# Altium footprint library My Library.PcbLib: 161 footprints (part 6 of 11)
Each footprint in its own frame and in the unit in brackets; x right, y up, seen from the top. Pads: shape width x height; smd on the part's side, far side on the other; paste and mask are expansions set on the pad; w line width, h text height; cw(c..) or ccw(c..) is an arc to the next point about the centre after c.
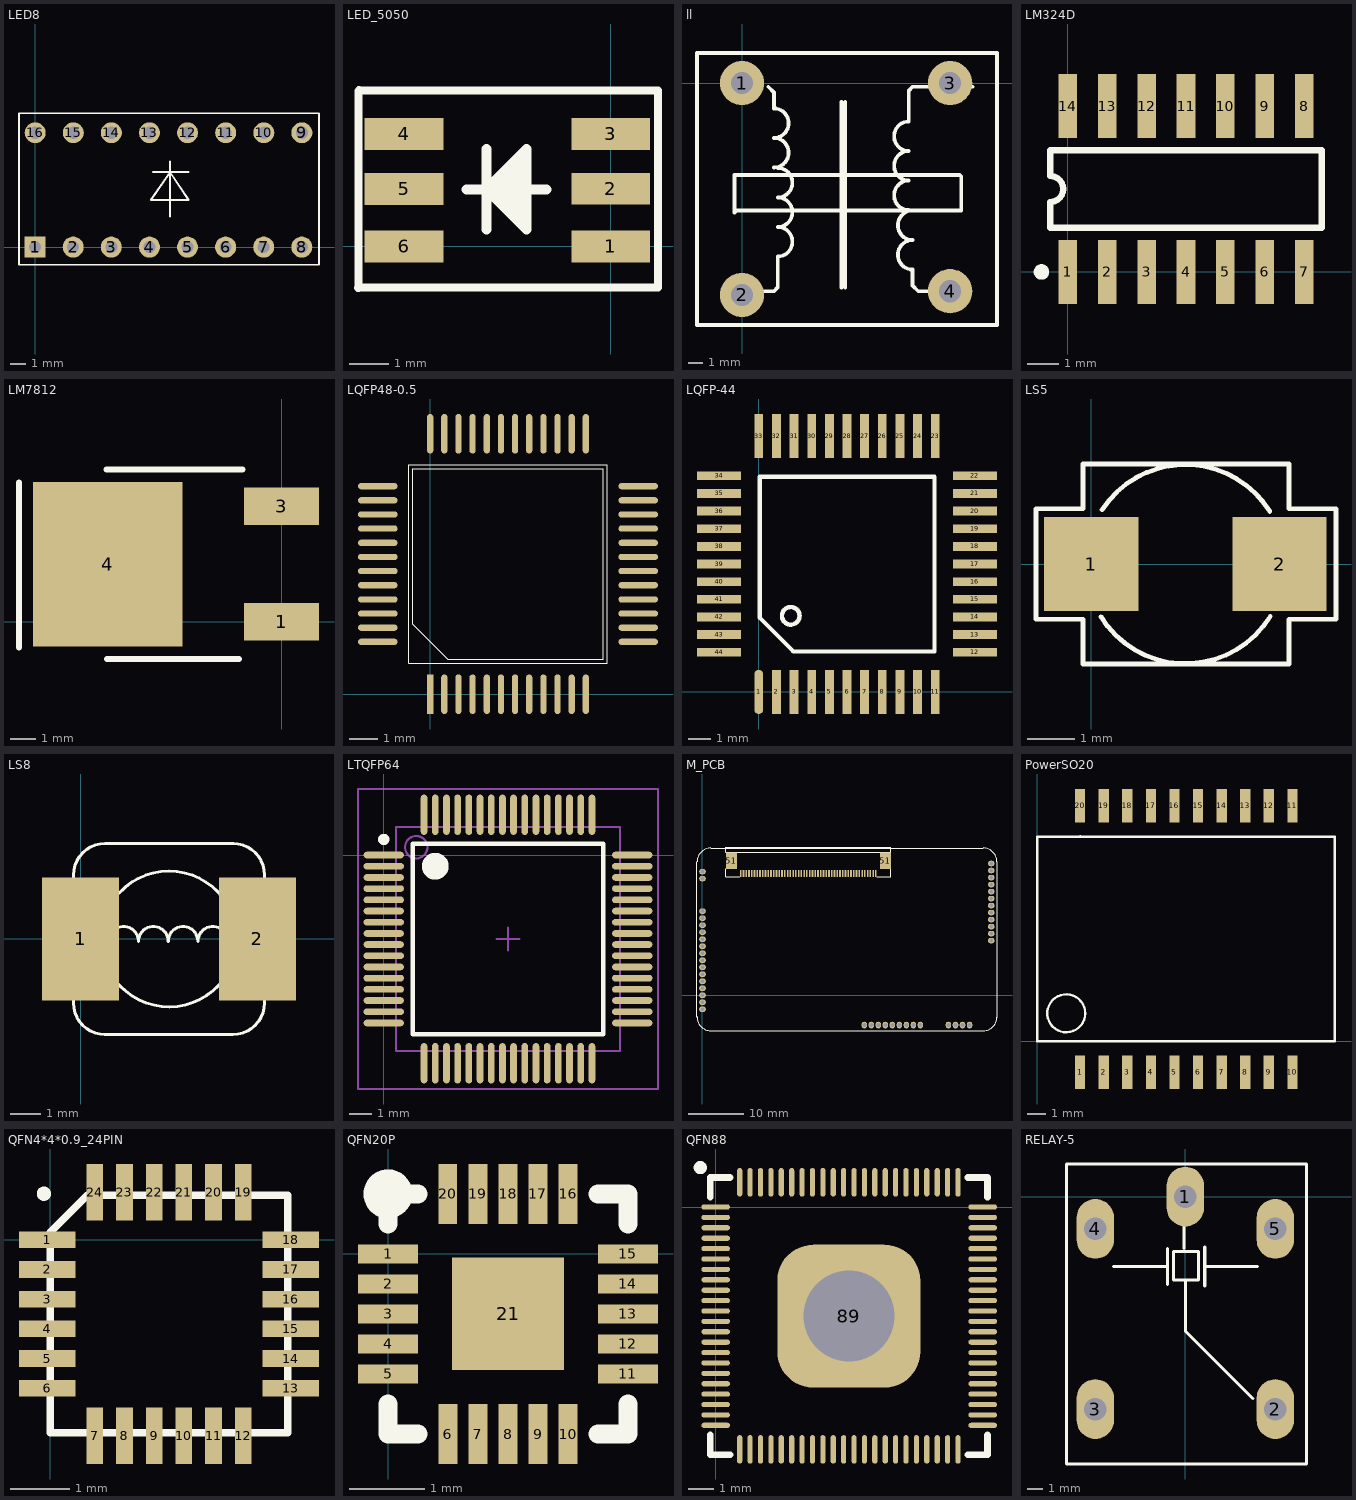
[diagram p5: the footprints below, top view; thin cyan lines are the x and y axes]

## LED8 [mm]
height 8
pads (16):
  rect 1.4x1.4 hole 0.8: 1(0,0)
  round 1.4 hole 0.8: 2(2.54,0) 3(5.08,0) 4(7.62,0) 5(10.16,0) 6(12.7,0) 7(15.24,0) 8(17.78,0) 9(17.782,7.625) 10(15.242,7.625) 11(12.702,7.625) 12(10.162,7.625) 13(7.622,7.625) 14(5.082,7.625) 15(2.542,7.625) 16(0.002,7.625)
Top Overlay:
  lines w0.127: -1.075,8.925 -1.075,-1.175 18.925,-1.175 18.925,8.925 -1.05,8.925 ; 7.85,5 10.225,5 ; 8.975,4.95 7.725,3.15 10.225,3.15 9,4.975 ; 9,2.025 9,5.725

## LED_5050 [mm]
height 1.5
pads (6):
  rect 2x0.8 smd: 1(0,0) 2(0,1.457) 3(0,2.85) 4(-5.238,2.85) 5(-5.238,1.457) 6(-5.238,0)
Top Overlay:
  region: -2.358,2.007 -2.587,2.007 -2.587,1.778 -2.358,1.778
  lines w0.203: -6.404,-1.046 1.197,-1.039 ; -6.397,-1.046 -6.397,3.945 ; -6.382,3.959 1.185,3.958 ; 1.198,-1.038 1.198,3.95
  lines w0.25: -2.529,1.233 -2.529,1.758 ; -2.463,1.252 -2.757,1.545 -2.401,1.901 -2.401,0.92 -2.927,1.446 -2.264,2.109 -2.264,0.707
  lines w0.254: -3.654,1.449 -3.146,1.449 ; -3.146,0.433 -3.146,1.449 ; -3.146,2.465 -3.146,1.449 ; -2.13,0.941 -2.13,2.465 -3.146,1.449 ; -1.622,1.449 -2.13,1.449 -2.13,0.433 -3.146,1.449
3D body: height 1.5, standoff 0, extent -5.063,-1.1 -0.038,3.925

## ll [mm]
pads (4):
  round 3 hole 1.5: 1(0,0) 2(0,-14.351) 3(14.097,0) 4(14.097,-14.097)
Top Overlay:
  lines w0.254: 1.524,-14.097 1.905,-14.097 2.159,-14.097 2.413,-13.843 2.413,-11.747 ccw(c2.413,-10.747) 2.413,-9.747 ccw(c2.413,-8.747) 2.413,-7.747 ccw(c2.413,-6.747) 2.413,-5.747 ; 1.778,-0.254 2.159,-0.635 2.159,-1.715 cw(c2.159,-2.715) 2.159,-3.715 cw(c2.159,-4.715) 2.159,-5.715 ; 6.731,-13.843 6.731,-1.27 ; 6.985,-13.843 6.985,-1.27 ; 11.303,-8.604 cw(c11.303,-7.604) 11.303,-6.604 cw(c11.303,-5.604) 11.303,-4.604 cw(c11.303,-3.604) 11.303,-2.604 11.303,-0.508 11.557,-0.254 11.811,-0.254 12.192,-0.254 15.621,-0.254 ; 11.557,-8.636 ccw(c11.557,-9.636) 11.557,-10.636 ccw(c11.557,-11.636) 11.557,-12.636 11.557,-13.716 11.938,-14.097 15.24,-14.097 ; -3.048,-16.383 17.272,-16.383 17.272,2.032 -3.048,2.032 -3.048,-16.383 ; -0.508,-8.763 -0.381,-8.636 14.859,-8.636 14.859,-6.35 14.732,-6.223 -0.508,-6.223 -0.508,-8.763

## LM324D [mm]
pads (14):
  rect 0.6x2.05 smd: 1(0,0) 2(1.27,0) 3(2.54,0) 4(3.81,0) 5(5.08,0) 6(6.35,0) 7(7.62,0) 8(7.62,5.35) 9(6.35,5.35) 10(5.08,5.35) 11(3.81,5.35) 12(2.54,5.35) 13(1.27,5.35) 14(0,5.35)
Top Overlay:
  circle w0.25: c-0.85,0 r0.125
  lines w0.2: -0.565,1.425 8.185,1.425 8.185,3.925 -0.565,3.925 -0.565,3.092 cw(c-0.565,2.675) -0.565,2.258 -0.565,1.425

## LM7812 [mm]
pads (3):
  rect 3x1.5 smd: 1(0,0) 3(0,4.623)
  rect 6x6.6 smd: 4(-6.964,2.3)
Top Overlay:
  lines w0.254: -10.516,-1.027 -10.516,5.577 ; -7.01,6.093 -1.575,6.093 ; -6.985,-1.496 -6.35,-1.496 -1.702,-1.496

## LQFP48-0.5 [mm]
height 1.5
pads (48):
  rect 0.22x1.4 smd: 1(0,0)
  oval 0.22x1.4 smd: 2(0.5,0) 3(1,0) 4(1.5,0) 5(2,0) 6(2.5,0) 7(3,0) 8(3.5,0) 9(4,0) 10(4.5,0) 11(5,0) 12(5.5,0) 25(5.5,9.2) 26(5,9.2) 27(4.5,9.2) 28(4,9.2) 29(3.5,9.2) 30(3,9.2) 31(2.5,9.2) 32(2,9.2) 33(1.5,9.2) 34(1,9.2) 35(0.5,9.2) 36(0,9.2)
  oval 1.4x0.22 smd: 13(7.35,1.85) 14(7.35,2.35) 15(7.35,2.85) 16(7.35,3.35) 17(7.35,3.85) 18(7.35,4.35) 19(7.35,4.85) 20(7.35,5.35) 21(7.35,5.85) 22(7.35,6.35) 23(7.35,6.85) 24(7.35,7.35) 37(-1.85,7.35) 38(-1.85,6.85) 39(-1.85,6.35) 40(-1.85,5.85) 41(-1.85,5.35) 42(-1.85,4.85) 43(-1.85,4.35) 44(-1.85,3.85) 45(-1.85,3.35) 46(-1.85,2.85) 47(-1.85,2.35) 48(-1.85,1.85)
Top Overlay:
  lines w0.025: -0.75,1.1 -0.675,1.1 2.75,1.1 6.25,1.1 6.25,8.1 -0.75,8.1 -0.75,1.1 ; -0.615,2.47 0.62,1.235 6.115,1.235 6.115,7.965 -0.615,7.965 -0.615,2.47

## LQFP-44 [mm]
height 2
pads (44):
  oval 0.4x2 smd: 1(0,0)
  rect 0.4x2 smd: 2(0.8,0) 3(1.6,0) 4(2.4,0) 5(3.2,0) 6(4,0) 7(4.801,0) 8(5.601,0) 9(6.401,0) 10(7.201,0) 11(8.001,0) 23(8.001,11.6) 24(7.201,11.6) 25(6.401,11.6) 26(5.601,11.6) 27(4.801,11.6) 28(4,11.6) 29(3.2,11.6) 30(2.4,11.6) 31(1.6,11.6) 32(0.8,11.6) 33(0,11.6)
  rect 2x0.4 smd: 12(9.8,1.799) 13(9.8,2.599) 14(9.8,3.399) 15(9.8,4.199) 16(9.8,4.999) 17(9.8,5.799) 18(9.8,6.599) 19(9.8,7.399) 20(9.8,8.199) 21(9.8,8.999) 22(9.8,9.8) 34(-1.8,9.8) 35(-1.8,8.999) 36(-1.8,8.199) 37(-1.8,7.399) 38(-1.8,6.599) 39(-1.8,5.799) 40(-1.8,4.999) 41(-1.8,4.199) 42(-1.8,3.399) 43(-1.8,2.599) 44(-1.8,1.799)
Top Overlay:
  circle w0.2: c1.45,3.45 r0.4
  lines w0.2: 0.036,3.371 0.036,9.764 7.965,9.764 7.965,1.834 1.57,1.834 0.036,3.371
3D body: height 2, standoff 0, extent -0.8,1 8.8,10.6

## LS5 [mm]
pads (2):
  rect 2x2 smd: 1(0,0) 2(4,0)
Top Overlay:
  lines w0.1: 0.202,-1.12 ccw(c2,0) 3.803,-1.112 ; 0.229,1.153 cw(c2,0) 3.793,1.118 ; -1.175,-1.175 -0.175,-1.175 -0.175,-2.125 4.2,-2.125 4.2,-1.175 5.2,-1.175 5.2,1.175 4.2,1.175 4.2,2.125 -0.175,2.125 -0.175,1.175 -1.175,1.175 -1.175,-1.175

## LS8 [mm]
pads (2):
  rect 2.5x4 smd: 1(0,0) 2(5.74,0)
Top Overlay:
  lines w0.1: -0.231,-2.085 ccw(c0.785,-2.085) 0.785,-3.101 4.953,-3.101 ccw(c4.953,-2.085) 5.969,-2.085 ; -0.229,-2.083 -0.229,2.083 cw(c0.787,2.083) 0.787,3.099 4.955,3.099 cw(c4.955,2.083) 5.971,2.083 5.971,-2.083 ; 0.914,-0.076 cw(c1.397,-0.076) 1.88,-0.076 cw(c2.362,-0.076) 2.845,-0.076 cw(c3.327,-0.076) 3.81,-0.076 cw(c4.293,-0.076) 4.775,-0.076 ; 1.43,1.668 ccw(c2.87,0) 1.453,1.688

## LTQFP64 [mm]
height 2
pads (64):
  oval 1.8x0.3 smd: 1(0,0) 2(0,-0.5) 3(0,-1) 4(0,-1.5) 5(0,-2) 6(0,-2.5) 7(0,-3) 8(0,-3.5) 9(0,-4) 10(0,-4.5) 11(0,-5) 12(0,-5.5) 13(0,-6) 14(0,-6.5) 15(0,-7) 16(0,-7.5) 33(11.1,-7.5) 34(11.1,-7) 35(11.1,-6.5) 36(11.1,-6) 37(11.1,-5.5) 38(11.1,-5) 39(11.1,-4.5) 40(11.1,-4) 41(11.1,-3.5) 42(11.1,-3) 43(11.1,-2.5) 44(11.1,-2) 45(11.1,-1.5) 46(11.1,-1) 47(11.1,-0.5) 48(11.1,0)
  oval 0.3x1.8 smd: 17(1.8,-9.3) 18(2.3,-9.3) 19(2.8,-9.3) 20(3.3,-9.3) 21(3.8,-9.3) 22(4.3,-9.3) 23(4.8,-9.3) 24(5.3,-9.3) 25(5.8,-9.3) 26(6.3,-9.3) 27(6.8,-9.3) 28(7.3,-9.3) 29(7.8,-9.3) 30(8.3,-9.3) 31(8.8,-9.3) 32(9.3,-9.3) 49(9.3,1.8) 50(8.8,1.8) 51(8.3,1.8) 52(7.8,1.8) 53(7.3,1.8) 54(6.8,1.8) 55(6.3,1.8) 56(5.8,1.8) 57(5.3,1.8) 58(4.8,1.8) 59(4.3,1.8) 60(3.8,1.8) 61(3.3,1.8) 62(2.8,1.8) 63(2.3,1.8) 64(1.8,1.8)
Top Overlay:
  circle w0.25: c0,0.7 r0.125
  circle w0.6: c2.3,-0.5 r0.3
  lines w0.2: 1.3,-8 1.3,0.5 9.8,0.5 9.8,-8 1.3,-8
Mechanical 13:
  circle w0.1: c1.45,0.35 r0.5
  lines w0.1: 0.55,-8.75 0.55,1.25 10.55,1.25 10.55,-8.75 0.55,-8.75
Mechanical 15:
  lines w0.1: 5.05,-3.75 6.05,-3.75 ; 5.55,-4.25 5.55,-3.25 ; -1.15,-10.45 -1.15,2.95 12.25,2.95 12.25,-10.45 -1.15,-10.45
3D body: height 1.6, standoff 0, extent 0.55,-8.75 10.55,1.25

## M_PCB [mm]
pads (94):
  oval 1.2x1 hole 0.7: 1(0,0) 2(0,1.27) 3(0,2.54) 4(0,3.81) 5(0,5.08) 6(0,6.35) 7(0,7.62) 8(0,8.89) 9(0,10.16) 10(0,11.43) 11(0,12.699) 18(52.324,11.176) 19(52.324,12.446) 20(52.324,13.716) 21(52.324,14.986) 21(52.324,16.256) 22(52.324,17.526) 23(52.324,18.796) 24(52.324,20.066) 25(52.324,21.336) 26(52.324,22.606) 27(52.324,23.876) 28(52.324,9.906) 29(0,-2.54) 31(0,-1.27) 37(0,21.145) 38(0,22.415) 39(0,13.969) 40(0,15.239)
  rect 0.3x1.25 smd: 1(6.921,22.098) 2(7.421,22.098) 3(7.922,22.098) 4(8.421,22.098) 5(8.922,22.098) 6(9.422,22.098) 7(9.921,22.098) 8(10.422,22.098) 9(10.921,22.098) 10(11.422,22.098) 11(11.922,22.098) 12(12.421,22.098) 13(12.922,22.098) 14(13.421,22.098) 15(13.922,22.098) 16(14.422,22.098) 17(14.921,22.098) 18(15.422,22.098) 19(15.921,22.098) 20(16.422,22.098) 21(16.922,22.098) 22(17.421,22.098) 23(17.921,22.098) 24(18.421,22.098) 25(18.922,22.098) 26(19.422,22.098) 27(19.921,22.098) 28(20.421,22.098) 29(20.921,22.098) 30(21.422,22.098) 31(21.922,22.098) 32(22.421,22.098) 33(22.921,22.098) 34(23.422,22.098) 35(23.922,22.098) 36(24.422,22.098) 37(24.921,22.098) 38(25.421,22.098) 39(25.922,22.098) 40(26.422,22.098) 41(26.922,22.098) 42(27.421,22.098) 43(27.921,22.098) 44(28.422,22.098) 45(28.921,22.098) 46(29.422,22.098) 47(29.921,22.098) 48(30.422,22.098) 49(30.922,22.098) 50(31.421,22.098)
  oval 1x1.2 hole 0.7: 12(31.877,-5.397) 13(33.147,-5.397) 14(34.417,-5.397) 15(35.687,-5.397) 16(36.957,-5.397) 17(38.227,-5.397) 30(30.607,-5.397) 31(44.577,-5.397) 32(45.847,-5.397) 33(39.497,-5.397) 34(29.337,-5.397) 35(47.117,-5.397) 36(48.387,-5.397)
  rect 2x3 smd: 51(5.222,24.398) 51(33.122,24.398)
Bottom Layer:
  lines w0.254: 47.117,-5.397 47.166,-5.349
Top Overlay:
  lines w0.127: -0.995,-4 -0.995,24.194 ; -0.974,24.198 cw(c1.526,24.185) 1.524,26.685 ; -0.968,-3.937 ccw(c1.532,-3.935) 1.52,-6.435 ; 1.418,-6.413 51.011,-6.413 ; 1.481,26.67 50.884,26.67 ; 4.222,22.898 4.222,21.473 6.772,21.473 ; 31.571,21.473 34.121,21.473 34.121,22.898 ; 50.864,-6.429 ccw(c50.861,-3.929) 53.361,-3.941 ; 50.868,26.691 cw(c50.855,24.191) 53.355,24.194 ; 53.367,-4.058 53.367,24.187 ; 4.222,26.823 4.222,25.898 34.121,25.898 34.121,26.823 4.222,26.823 ; 4.222,26.823 4.222,26.823

## PowerSO20 [mm]
height 3.5
pads (20):
  rect 0.55x1.8 smd: 1(2.3,-1.675) 2(3.57,-1.675) 3(4.84,-1.675) 4(6.11,-1.675) 5(7.38,-1.675) 6(8.65,-1.675) 7(9.92,-1.675) 8(11.19,-1.675) 9(12.46,-1.675) 10(13.73,-1.675) 11(13.73,12.675) 12(12.46,12.675) 13(11.19,12.675) 14(9.92,12.675) 15(8.65,12.675) 16(7.38,12.675) 17(6.11,12.675) 18(4.84,12.675) 19(3.57,12.675) 20(2.3,12.675)
Top Overlay:
  circle w0.127: c1.554,1.5 r1.021
  lines w0.127: 9.475,0 9.5,0 ; 0,0 0,11 16,11 16,0 0,0 ; 2.3,11.025 2.3,11.025 ; 8,11 8,11
3D body: height 3.5, standoff 0, extent 0.025,0 15.975,11

## QFN4*4*0.9_24PIN [mm]
height 3
pads (24):
  rect 0.95x0.28 smd: 1(-0.05,0) 2(-0.05,-0.5) 3(-0.05,-1) 4(-0.05,-1.5) 5(-0.05,-2) 6(-0.05,-2.5) 13(4.05,-2.5) 14(4.05,-2) 15(4.05,-1.5) 16(4.05,-1) 17(4.05,-0.5) 18(4.05,0)
  rect 0.28x0.95 smd: 7(0.75,-3.3) 8(1.25,-3.3) 9(1.75,-3.3) 10(2.25,-3.3) 11(2.75,-3.3) 12(3.25,-3.3) 19(3.25,0.8) 20(2.75,0.8) 21(2.25,0.8) 22(1.75,0.8) 23(1.25,0.8) 24(0.75,0.8)
Top Overlay:
  circle w0.127: c-0.106,0.775 r0.056
  lines w0.127: 0,-3.25 0,0.125 0.625,0.75 4,0.75 4,-3.25 0,-3.25
3D body: height 1, standoff 0, extent 0,-3.25 4,0.75

## QFN20P [mm]
height 1
pads (21):
  rect 0.8x0.25 smd: 1(0,0) 2(0,-0.401) 3(0,-0.8) 4(0,-1.2) 5(0,-1.6) 11(3.198,-1.6) 12(3.198,-1.2) 13(3.198,-0.8) 14(3.198,-0.401) 15(3.198,0)
  rect 0.25x0.8 smd: 6(0.799,-2.402) 7(1.199,-2.402) 8(1.599,-2.402) 9(1.999,-2.402) 10(2.399,-2.402) 16(2.399,0.799) 17(1.998,0.799) 18(1.599,0.799) 19(1.199,0.799) 20(0.796,0.799)
  rect 1.5x1.5 smd: 21(1.599,-0.8)
Top Overlay:
  circle w0.254: c-0.001,0.8 r0.2
  lines w0.254: -0.001,-2.002 -0.001,-2.4 0.4,-2.4 ; -0.001,0.399 -0.001,0.8 0.4,0.8 ; 2.798,-2.4 3.199,-2.4 3.199,-2.002 ; 2.798,0.8 3.199,0.8 3.199,0.399

## QFN88 [mm]
height 1
pads (89):
  oval 1.1x0.2 smd: 1(0,0) 2(0,-0.4) 3(0,-0.8) 4(0,-1.2) 5(0,-1.6) 6(0,-2) 7(0,-2.4) 8(0,-2.8) 9(0,-3.2) 10(0,-3.6) 11(0,-4) 12(0,-4.4) 13(0,-4.8) 14(0,-5.2) 15(0,-5.6) 16(0,-6) 17(0,-6.4) 18(0,-6.8) 19(0,-7.2) 20(0,-7.6) 21(0,-8) 22(0,-8.4) 45(10.275,-8.4) 46(10.275,-8) 47(10.275,-7.6) 48(10.275,-7.2) 49(10.275,-6.8) 50(10.275,-6.4) 51(10.275,-6) 52(10.275,-5.6) 53(10.275,-5.2) 54(10.275,-4.8) 55(10.275,-4.4) 56(10.275,-4) 57(10.275,-3.6) 58(10.275,-3.2) 59(10.275,-2.8) 60(10.275,-2.4) 61(10.275,-2) 62(10.275,-1.6) 63(10.275,-1.2) 64(10.275,-0.8) 65(10.275,-0.4) 66(10.275,0)
  oval 0.2x1.1 smd: 23(0.925,-9.325) 24(1.325,-9.325) 25(1.725,-9.325) 26(2.125,-9.325) 27(2.525,-9.325) 28(2.925,-9.325) 29(3.325,-9.325) 30(3.725,-9.325) 31(4.125,-9.325) 32(4.525,-9.325) 33(4.925,-9.325) 34(5.325,-9.325) 35(5.725,-9.325) 36(6.125,-9.325) 37(6.525,-9.325) 38(6.925,-9.325) 39(7.325,-9.325) 40(7.725,-9.325) 41(8.125,-9.325) 42(8.525,-9.325) 43(8.925,-9.325) 44(9.325,-9.325) 67(9.325,0.95) 68(8.925,0.95) 69(8.525,0.95) 70(8.125,0.95) 71(7.725,0.95) 72(7.325,0.95) 73(6.925,0.95) 74(6.525,0.95) 75(6.125,0.95) 76(5.725,0.95) 77(5.325,0.95) 78(4.925,0.95) 79(4.525,0.95) 80(4.125,0.95) 81(3.725,0.95) 82(3.325,0.95) 83(2.925,0.95) 84(2.525,0.95) 85(2.125,0.95) 86(1.725,0.95) 87(1.325,0.95) 88(0.925,0.95)
  rrect50% 5.5x5.5 hole 3.5: 89(5.125,-4.2)
Top Overlay:
  circle w0.254: c-0.59,1.515 r0.127
  lines w0.254: -0.209,-8.772 -0.209,-9.534 0.553,-9.534 ; -0.209,0.372 -0.209,1.134 0.553,1.134 ; 9.697,-9.534 10.459,-9.534 10.459,-8.772 ; 9.697,1.134 10.459,1.134 10.459,0.372

## RELAY-5 [mil]
height 590.55
pads (5):
  oval 98x157 hole 59: 1(0,0) 2(236,-557.46) 3(-236,-557.46) 4(-236,-84.46) 5(236,-84.46)
Top Overlay:
  lines w8: -189,-183.46 -47,-183.46 ; -47,-230.46 -47,-136.46 ; -4,-135.46 -4,-53.46 ; 0,-222.46 0,-352.46 177,-529.46 ; 51,-234.46 51,-132.46 ; 51,-183.46 189,-183.46 ; 318,26.54 318,85.54 -312,85.54 -312,26.54 -312,-701.46 318,-701.46 318,30.54 ; -31,-218.46 -31,-143.46 35,-143.46 35,-218.46 -31,-218.46